# EAGLE library part TEXAS_INSTRUMENTS-SUPERVISOR_MONITOR-TPS3711DDCR (library Module_Regulators)
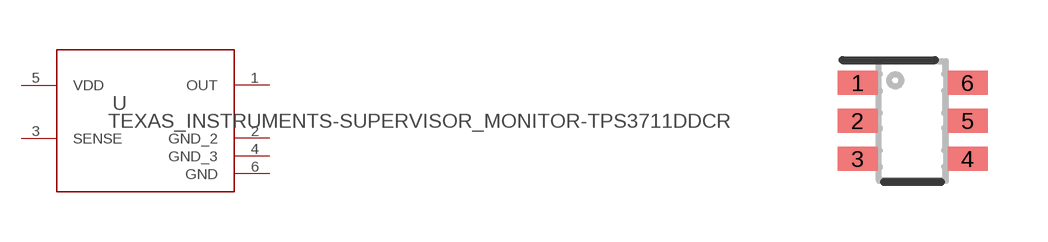
[diagram p10: symbol with the pads of TEXAS_INSTRUMENTS-SUPERVISOR_MONITOR-TPS3711DDCR/BUCK_CONVERTER-TPS563249DDCR/BUCK_CONVERTER-TPS565208DDCR; footprint TEXAS_INSTRUMENTS-SUPERVISOR_MONITOR-TPS3711DDCR/BUCK_CONVERTER-TPS563249DDCR/BUCK_CONVERTER-TPS565208DDCR]

Designator prefix U

## TEXAS_INSTRUMENTS-SUPERVISOR_MONITOR-TPS3711DDCR (MANUFACTURER: Texas Instruments; PARTNUMBER: TPS3711DDCR; REFDES: RefDes; TYPE: TYPE; VALUE: Value)  [TEXAS_INSTRUMENTS-SUPERVISOR_MONITOR-TPS3711DDCR/BUCK_CONVERTER-TPS563249DDCR/BUCK_CONVERTER-TPS565208DDCR]
1  OUT  oc
2  GND_2  pwr
3  SENSE  in
4  GND_3  pwr
5  VDD  pwr
6  GND  pwr

## Footprint TEXAS_INSTRUMENTS-SUPERVISOR_MONITOR-TPS3711DDCR/BUCK_CONVERTER-TPS563249DDCR/BUCK_CONVERTER-TPS565208DDCR (pad centres in mm)
smd 1 x 0.6: 1 -1.375,0.95; 2 -1.375,0; 3 -1.375,-0.95; 4 1.375,-0.95; 5 1.375,0; 6 1.375,0.95